# Altium schematic symbol library AD633.SchLib: 1 symbol
Pins are listed as number, name and electrical type; pins without a type are passive.

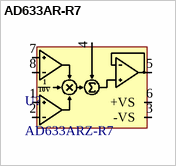
[diagram p0: symbol AD633AR-R7]

## AD633AR-R7
designator U?, comment AD633ARZ-R7
Analog Multiplier 4-Quadrant 8-SOIC; Type: AD633ARZ-R7; Supplier 1: Arrow Electronics; Supplier Part Number 1: AD633ARZ-R7
footprint SO8_1.27_C (SOIC, 8-Leads, Body 4,90x3,90mm, Pitch 1,27mm, IPC High Density)
pins: 1 Y1, 2 Y2, 3 -VS, 4 Z, 5 W, 6 +VS, 7 X1, 8 X2
text: 10V